# EAGLE library part CON-AVR-ISP-9 (library Namenlos)
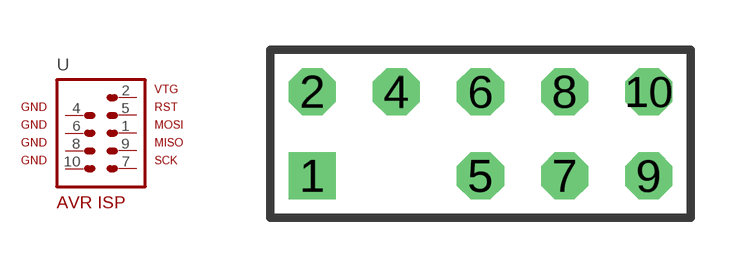
[diagram p3: symbol with the pads of AVR-ISP-9; footprint AVR-ISP-9]

Designator prefix -

## CON-AVR-ISP-9  [AVR-ISP-9]
1  1  pas
2  2  pas
4  4  pas
5  5  pas
6  6  pas
7  7  pas
8  8  pas
9  9  pas
10  10  pas

## Footprint AVR-ISP-9 (pad centres in mm)
drill 0.5 pad 1.422 square: 1 -5.08,-1.27
drill 0.5 pad 1.422 octagon: 2 -5.08,1.27; 4 -2.54,1.27; 5 0,-1.27; 6 0,1.27; 7 2.54,-1.27; 8 2.54,1.27; 9 5.08,-1.27; 10 5.08,1.27